# Altium footprint library TPS7A9101DSKT.PcbLib: 1 footprints
Each footprint in its own frame and in the unit in brackets; x right, y up, seen from the top. Pads: shape width x height; smd on the part's side, far side on the other; paste and mask are expansions set on the pad; w line width, h text height; cw(c..) or ccw(c..) is an arc to the next point about the centre after c.
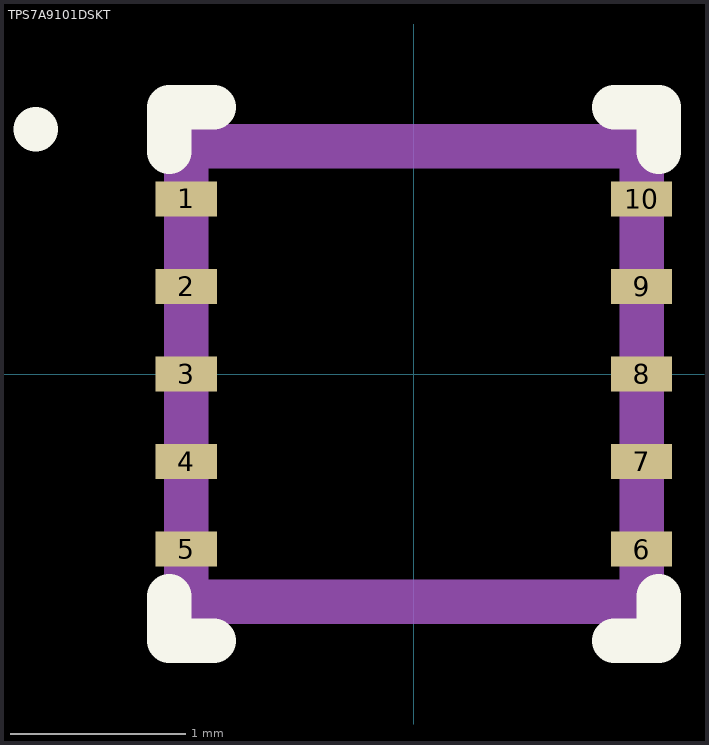
[diagram p0: the footprint, top view; thin cyan lines are the x and y axes]

## TPS7A9101DSKT [mm]
pads (10):
  rect 0.35x0.2 smd: 1(-1.3,1) 2(-1.3,0.5) 3(-1.3,0) 4(-1.3,-0.5) 5(-1.3,-1) 6(1.3,-1) 7(1.3,-0.5) 8(1.3,0) 9(1.3,0.5) 10(1.3,1)
Top Overlay:
  lines w0.254: -1.397,-1.27 -1.397,-1.524 -1.143,-1.524 ; -1.397,1.27 -1.397,1.524 -1.143,1.524 ; 1.143,-1.524 1.397,-1.524 1.397,-1.27 ; 1.143,1.524 1.397,1.524 1.397,1.27 ; -2.159,1.397 -2.159,1.397
Mechanical 1:
  lines w0.254: -1.3,-1.3 -1.3,1.3 1.3,1.3 1.3,-1.3 -1.3,-1.3